# EAGLE library part SF17010F-0302 (library pedal_parts)
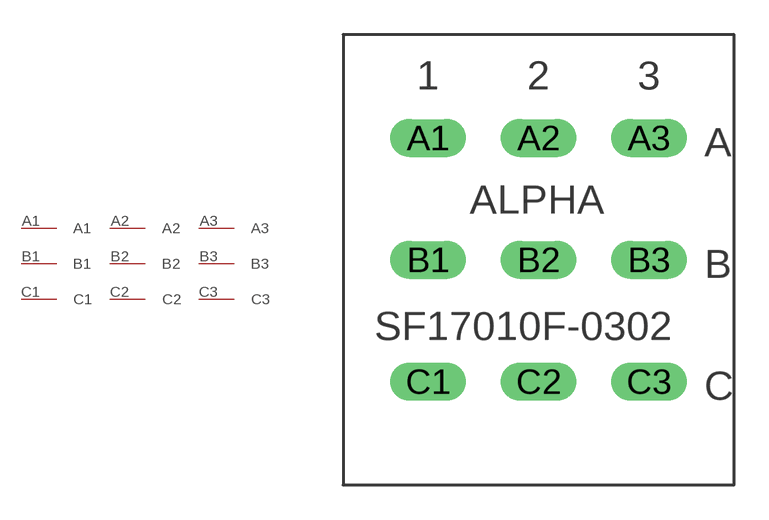
[diagram p0: symbol with the pads of ALPHA_SF17010F-0302; footprint ALPHA_SF17010F-0302]

Designator prefix -

## SF17010F-0302  [ALPHA_SF17010F-0302]
A1  A1
A2  A2
A3  A3
B1  B1
B2  B2
B3  B3
C1  C1
C2  C2
C3  C3

## Footprint ALPHA_SF17010F-0302 (pad centres in mm)
Alpha SF17010F-0302 3PDT PC Mount
drill 1.1 long: A1 -4.8,5.3; A2 0,5.3; A3 4.8,5.3; B1 -4.8,0; B2 0,0; B3 4.8,0; C1 -4.8,-5.3; C2 0,-5.3; C3 4.8,-5.3